# Altium footprint library LCR.PcbLib: 35 footprints (part 2 of 3)
Each footprint in its own frame and in the unit in brackets; x right, y up, seen from the top. Pads: shape width x height; smd on the part's side, far side on the other; paste and mask are expansions set on the pad; w line width, h text height; cw(c..) or ccw(c..) is an arc to the next point about the centre after c.
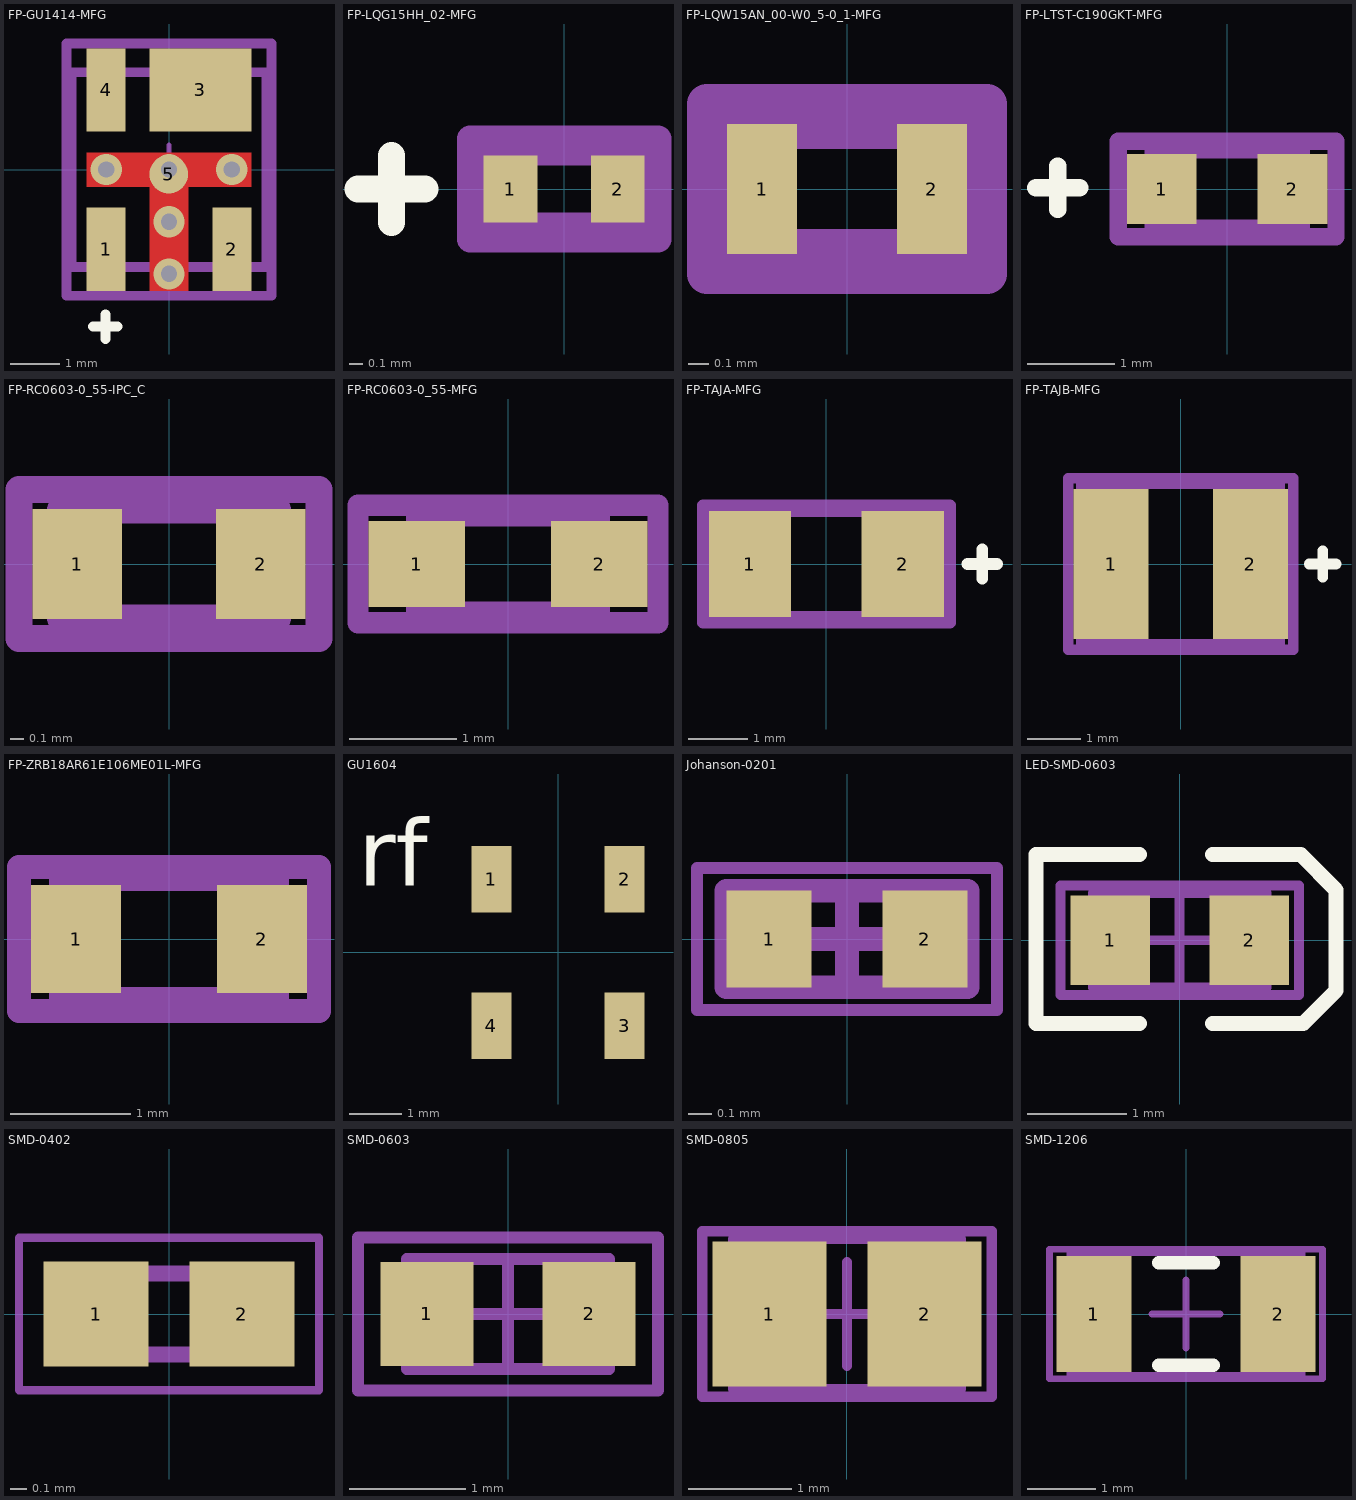
[diagram p1: the footprints below, top view; thin cyan lines are the x and y axes]

## FP-GU1414-MFG [mm]
pads (5):
  rect 0.79x1.68 smd paste+0 mask+0: 1(-1.27,-1.61) 2(1.27,-1.61) 4(-1.27,1.61)
  rect 2.06x1.68 smd paste+0 mask+0: 3(0.635,1.61)
  round 0.786 smd paste+0 mask+0: 5(-0.005,-0.094)
via -1.27,0 diameter 0.63 hole 0.33
via 0,0 diameter 0.63 hole 0.33
via 1.27,0 diameter 0.63 hole 0.33
via 0,-1.054 diameter 0.63 hole 0.33
via 0,-2.108 diameter 0.63 hole 0.33
Top Layer:
  region: -1.664,-0.343 -1.664,0.343 1.664,0.343 1.664,-0.343 0.394,-0.343 0.394,-2.451 -0.394,-2.451 -0.394,-0.343
Top Overlay:
  lines w0.2: -1.287,-3.425 -1.287,-2.925
  lines w0.203: -1.537,-3.175 -1.037,-3.175
Top 3D Body:
  lines w0.2: -1.968,-1.968 1.968,-1.968 1.968,1.968 -1.968,1.968 -1.968,-1.968
Top Courtyard:
  lines w0.2: -2.068,-2.551 2.068,-2.551 2.068,2.55 -2.068,2.55 -2.068,-2.551
Top Assembly:
  lines w0.2: -2.068,-2.551 2.068,-2.551 2.068,2.55 -2.068,2.55 -2.068,-2.551
  text ".Designator" at 2.413,-0.066 h1
Top Component Center:
  lines w0.1: -0.5,0 0.5,0 ; 0,-0.5 0,0.5
3D body "Filter_Mini-Circuits_TCBT-123+_eec.STEP": height 0.25, standoff 0, extent -2.068,-2.551 2.068,2.55

## FP-LQG15HH_02-MFG [mm]
pads (2):
  rect 0.4x0.5 smd paste+0 mask+0: 1(-0.4,0) 2(0.4,0)
Top Overlay:
  lines w0.2: -1.287,-0.25 -1.287,0.25
  lines w0.203: -1.537,0 -1.037,0
Top 3D Body:
  lines w0.2: -0.525,-0.275 -0.525,0.275 0.525,0.275 0.525,-0.275 -0.525,-0.275
Top Courtyard:
  lines w0.2: -0.7,-0.375 -0.7,0.375 0.7,0.375 0.7,-0.375 -0.7,-0.375
Top Assembly:
  lines w0.2: -0.7,-0.375 -0.7,0.375 0.7,0.375 0.7,-0.375 -0.7,-0.375
  text ".Designator" at 1.016,-0.32 h1
3D body "Ind_Murata_LQG15HN39NJ02D_eec.STEP": height 0.25, standoff 0, extent -0.7,-0.375 0.7,0.375

## FP-LQW15AN_00-W0_5-0_1-MFG [mm]
pads (2):
  rect 0.35x0.65 smd paste+0 mask+0: 1(-0.425,0) 2(0.425,0)
Top 3D Body:
  lines w0.2: -0.55,-0.3 -0.55,0.3 0.55,0.3 0.55,-0.3 -0.55,-0.3
Top Courtyard:
  lines w0.2: -0.7,-0.425 -0.7,0.425 0.7,0.425 0.7,-0.425 -0.7,-0.425
Top Assembly:
  lines w0.2: -0.7,-0.425 -0.7,0.425 0.7,0.425 0.7,-0.425 -0.7,-0.425
  text ".Designator" at 1.016,-0.32 h1
3D body "Ind_Murata_LQW15AN24NG00B_eec.STEP": height 0.25, standoff 0, extent -0.7,-0.425 0.7,0.425

## FP-LTST-C190GKT-MFG [mm]
pads (2):
  rect 0.8x0.8 smd paste+0 mask+0: 1(-0.75,0) 2(0.75,0)
Top Overlay:
  lines w0.2: -1.946,-0.236 -1.946,0.264
  lines w0.203: -2.196,0.014 -1.696,0.014
Top 3D Body:
  lines w0.2: -0.85,-0.45 -0.85,0.45 0.85,0.45 0.85,-0.45 -0.85,-0.45
Top Courtyard:
  lines w0.2: -1.25,-0.55 -1.25,0.55 1.25,0.55 1.25,-0.55 -1.25,-0.55
Top Assembly:
  lines w0.2: -1.25,-0.55 -1.25,0.55 1.25,0.55 1.25,-0.55 -1.25,-0.55
  text ".Designator" at 1.651,-0.32 h1
3D body "Diode_Lite-On_LTST-C190GKT_eec.STEP": height 0.25, standoff 0, extent -1.25,-0.55 1.25,0.55

## FP-RC0603-0_55-IPC_C [mm]
pads (2):
  rect 0.659x0.812 smd paste+0 mask+0: 1(-0.677,0) 2(0.677,0)
Top 3D Body:
  lines w0.2: -0.8,-0.4 -0.8,0.4 0.8,0.4 0.8,-0.4 -0.8,-0.4
Top Courtyard:
  lines w0.2: -1.106,-0.55 -1.106,0.55 1.106,0.55 1.106,-0.55 -1.106,-0.55
Top Assembly:
  lines w0.2: -1.106,-0.55 -1.106,0.55 1.106,0.55 1.106,-0.55 -1.106,-0.55
  text ".Designator" at 1.397,-0.193 h1
3D body "Res_Yageo_RC0603FR-07100KL_eec.STEP": height 0.25, standoff 0, extent -1.106,-0.55 1.106,0.55

## FP-RC0603-0_55-MFG [mm]
pads (2):
  rect 0.9x0.8 smd paste+0 mask+0: 1(-0.85,0) 2(0.85,0)
Top 3D Body:
  lines w0.2: -0.85,-0.45 -0.85,0.45 0.85,0.45 0.85,-0.45 -0.85,-0.45
Top Courtyard:
  lines w0.2: -1.4,-0.55 -1.4,0.55 1.4,0.55 1.4,-0.55 -1.4,-0.55
Top Assembly:
  lines w0.2: -1.4,-0.55 1.4,-0.55 1.4,0.55 -1.4,0.55 -1.4,-0.55
  text ".Designator" at 1.651,-0.193 h1
3D body "Res_YAGEO_RC0603JR-07100RL_eec.STEP": height 0.25, standoff 0, extent -1.4,-0.55 1.4,0.55

## FP-TAJA-MFG [mm]
pads (2):
  rect 1.4x1.8 smd paste+0 mask+0: 1(-1.3,0) 2(1.3,0)
Top Overlay:
  lines w0.2: 2.65,-0.25 2.65,0.25
  lines w0.203: 2.4,0 2.9,0
Top 3D Body:
  lines w0.2: -1.7,-0.9 -1.7,0.9 1.7,0.9 1.7,-0.9 -1.7,-0.9
Top Courtyard:
  lines w0.2: -2.1,-1 -2.1,1 2.1,1 2.1,-1 -2.1,-1
Top Assembly:
  lines w0.2: -2.1,-1 -2.1,1 2.1,1 2.1,-1 -2.1,-1
  text ".Designator" at 3.048,-0.193 h1
3D body "Cap_AVX_TAJA476K002RNJ_eec.STEP": height 0.25, standoff 0, extent -2.1,-1 2.1,1

## FP-TAJB-MFG [mm]
pads (2):
  rect 1.4x2.8 smd paste+0 mask+0: 1(-1.3,0) 2(1.3,0)
Top Overlay:
  lines w0.2: 2.4,0 2.9,0 ; 2.65,-0.25 2.65,0.25
Top 3D Body:
  lines w0.2: -1.85,-1.5 -1.85,1.5 1.85,1.5 1.85,-1.5 -1.85,-1.5
Top Courtyard:
  lines w0.2: -2.1,-1.6 -2.1,1.6 2.1,1.6 2.1,-1.6 -2.1,-1.6
Top Assembly:
  lines w0.2: -2.1,-1.6 2.1,-1.6 2.1,1.6 -2.1,1.6 -2.1,-1.6
  text ".Designator" at 2.413,0.696 h1
3D body "Cap_AVX_TAJB335M035RNJ_eec.STEP": height 0.25, standoff 0, extent -2.1,-1.6 2.1,1.6

## FP-ZRB18AR61E106ME01L-MFG [mm]
pads (2):
  rect 0.75x0.9 smd paste+0 mask+0: 1(-0.775,0) 2(0.775,0)
Top 3D Body:
  lines w0.2: -0.9,-0.5 0.9,-0.5 0.9,0.5 -0.9,0.5 -0.9,-0.5
Top Courtyard:
  lines w0.2: -1.25,-0.6 1.25,-0.6 1.25,0.6 -1.25,0.6 -1.25,-0.6
Top Assembly:
  lines w0.2: -1.25,-0.6 1.25,-0.6 1.25,0.6 -1.25,0.6 -1.25,-0.6
  text ".Designator" at 1.524,-0.193 h1
3D body "Cap_Murata_Electronics_ZRB18AR61E106ME01L_eec.STEP": height 0.25, standoff 0, extent -1.25,-0.6 1.25,0.6

## GU1604 [mil]
pads (4):
  rect 30x50 smd: 1(-50,55) 2(50,55) 3(50,-55) 4(-50,-55)
Top Overlay:
  text "rf" at -150.2,50.06 h50.06
3D body "step_temp.STEP": height 150, standoff 0, extent -75,-75 75,75

## Johanson-0201 [mm] "Chip Capacitor, 2-Leads, Body 0.82x0.37mm, IPC Medium Density"
height 0.6
pads (2):
  rect 0.36x0.41 smd mask+0.05: 1(-0.33,0) 2(0.33,0)
Mechanical 13:
  lines w0.1: -0.51,-0.205 -0.51,0.205 0.51,0.205 0.51,-0.205 -0.51,-0.205
Mechanical 15:
  lines w0.05: -0.635,-0.3 -0.635,0.3 0.635,0.3 0.635,0.188 0.635,-0.112 0.635,-0.3 -0.635,-0.3
  lines w0.1: -0.205,0 0.205,0 ; 0,-0.205 0,0.205
3D body: height 0.6, standoff 0, extent -0.23,-0.205 0.23,0.205
3D body: height 0.6, standoff 0, extent -0.51,-0.205 -0.23,0.205
3D body: height 0.6, standoff 0, extent 0.23,-0.205 0.51,0.205

## LED-SMD-0603 [mm] "SMD Body 1.6x0.8mm, IPC High Density"
height 1.3
pads (2):
  rect 0.8x0.9 smd: 1(-0.7,0) 2(0.7,0)
Top Overlay:
  lines w0.152: -0.406,-0.838 -1.448,-0.838 -1.448,0.864 -0.406,0.864 ; 0.33,-0.838 1.245,-0.838 1.575,-0.508 1.575,0.508 1.219,0.864 0.33,0.864
Mechanical 13:
  lines w0.1: -0.875,-0.475 -0.875,0.475 0.875,0.475 0.875,-0.475 -0.875,-0.475
Mechanical 15:
  lines w0.1: -0.475,0 0.475,0 ; 0,-0.475 0,0.475 ; -1.2,-0.55 -1.2,0.55 1.2,0.55 1.2,-0.55 -1.2,-0.55
3D body: height 1.3, standoff 0, extent -0.875,-0.475 0.875,0.475

## SMD-0402 [mm] "0402 Imperial"
pads (2):
  rect 0.65x0.65 smd mask+0.05: 1(-0.45,0) 2(0.45,0)
Mechanical 13:
  lines w0.1: -0.5,-0.25 -0.5,0.25 0.5,0.25 0.5,-0.25 -0.5,-0.25
Mechanical 15:
  lines w0.05: -0.925,-0.47 -0.925,0.47 0.925,0.47 0.925,-0.47 -0.925,-0.47
3D body "04023A101JAT2A.stp": height 0.56, standoff 0, extent -0.5,-0.25 0.5,0.25

## SMD-0603 [mm] "SMD Body 1.6x0.8mm, IPC High Density"
height 1.3
pads (2):
  rect 0.8x0.9 smd: 1(-0.7,0) 2(0.7,0)
Mechanical 13:
  lines w0.1: -0.875,-0.475 -0.875,0.475 0.875,0.475 0.875,-0.475 -0.875,-0.475
Mechanical 15:
  lines w0.1: -0.475,0 0.475,0 ; 0,-0.475 0,0.475 ; -1.295,-0.66 -1.295,0.66 1.295,0.66 1.295,-0.66 -1.295,-0.66
3D body: height 1.3, standoff 0, extent -0.875,-0.475 0.875,0.475

## SMD-0805 [mm] "Chip Capacitor, Body 2.0x1.3mm, IPC High Density, 0805 Imperial, 2012 Metric"
height 1.4
pads (2):
  rect 1.1x1.4 smd: 1(-0.75,0) 2(0.75,0)
Mechanical 13:
  lines w0.1: -1.1,-0.725 -1.1,0.725 1.1,0.725 1.1,-0.725 -1.1,-0.725
Mechanical 15:
  lines w0.1: -0.5,0 0.5,0 ; 0,-0.5 0,0.5 ; -1.4,-0.8 -1.4,0.8 1.4,0.8 1.4,-0.8 -1.4,-0.8
3D body: height 1.4, standoff 0, extent -1.1,-0.725 1.1,0.725

## SMD-1206 [mm] "Chip Capacitor, Body 3.2x1.6mm, IPC High Density"
height 1.3
pads (2):
  rect 1.1x1.7 smd: 1(-1.35,0) 2(1.35,0)
Top Overlay:
  lines w0.2: -0.4,-0.75 0.4,-0.75 ; -0.4,0.75 0.4,0.75
Mechanical 13:
  lines w0.1: -1.7,-0.9 1.7,-0.9 1.7,0.9 -1.7,0.9 -1.7,-0.9
Mechanical 15:
  lines w0.1: -0.5,0 0.5,0 ; 0,-0.5 0,0.5 ; -2,-0.95 2,-0.95 2,0.95 -2,0.95 -2,-0.95
3D body: height 1.3, standoff 0, extent -1.7,-0.9 1.7,0.9